# EAGLE library part IMU_LSM9DS1 (library custom_michael_shao)
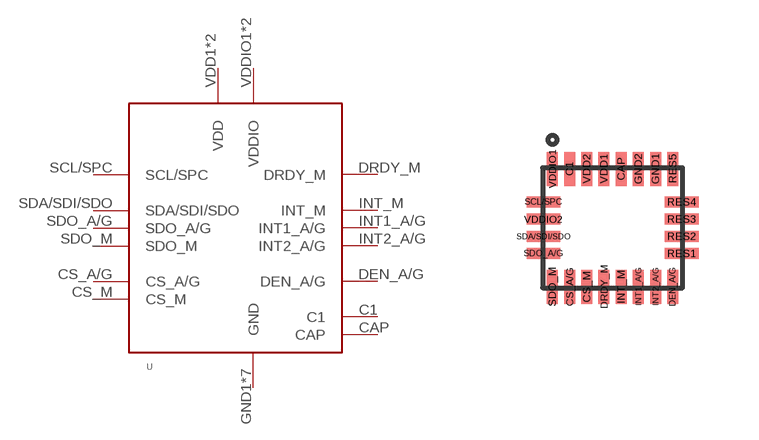
[diagram p0: symbol with the pads of LSM9DS1; footprint LSM9DS1]

Designator prefix U

## IMU_LSM9DS1-LSM9DS1 (CREATOR: Michael Shao; DIST: Digikey; DISTPN: 497-14946-1-ND)  [LSM9DS1]
C1  C1
CAP  CAP
CS_A/G  CS_A/G
CS_M  CS_M
DEN_A/G  DEN_A/G
DRDY_M  DRDY_M
GND1  GND
GND2  GND
INT1_A/G  INT1_A/G
INT2_A/G  INT2_A/G
INT_M  INT_M
RES1  GND
RES2  GND
RES3  GND
RES4  GND
RES5  GND
SCL/SPC  SCL/SPC
SDA/SDI/SDO  SDA/SDI/SDO
SDO_A/G  SDO_A/G
SDO_M  SDO_M
VDD1  VDD
VDD2  VDD
VDDIO1  VDDIO
VDDIO2  VDDIO

## Footprint LSM9DS1 (pad centres in mm)
smd 0.275 x 0.85: C1 -1.075,1.475; CAP 0.215,1.475; CS_A/G -1.075,-1.475; CS_M -0.645,-1.475; DEN_A/G 1.505,-1.475; DRDY_M -0.215,-1.475; GND1 1.075,1.475; GND2 0.645,1.475; INT1_A/G 0.645,-1.475; INT2_A/G 1.075,-1.475; INT_M 0.215,-1.475; RES5 1.505,1.475; SDO_M -1.505,-1.475; VDD1 -0.215,1.475; VDD2 -0.645,1.475; VDDIO1 -1.505,1.475
smd 0.85 x 0.275: RES1 1.725,-0.645; RES2 1.725,-0.215; RES3 1.725,0.215; RES4 1.725,0.645; SCL/SPC -1.725,0.645; SDA/SDI/SDO -1.725,-0.215; SDO_A/G -1.725,-0.645; VDDIO2 -1.725,0.215